# Altium footprint library sign_lib.PcbLib: 24 footprints (part 2 of 2)
Each footprint in its own frame and in the unit in brackets; x right, y up, seen from the top. Pads: shape width x height; smd on the part's side, far side on the other; paste and mask are expansions set on the pad; w line width, h text height; cw(c..) or ccw(c..) is an arc to the next point about the centre after c.
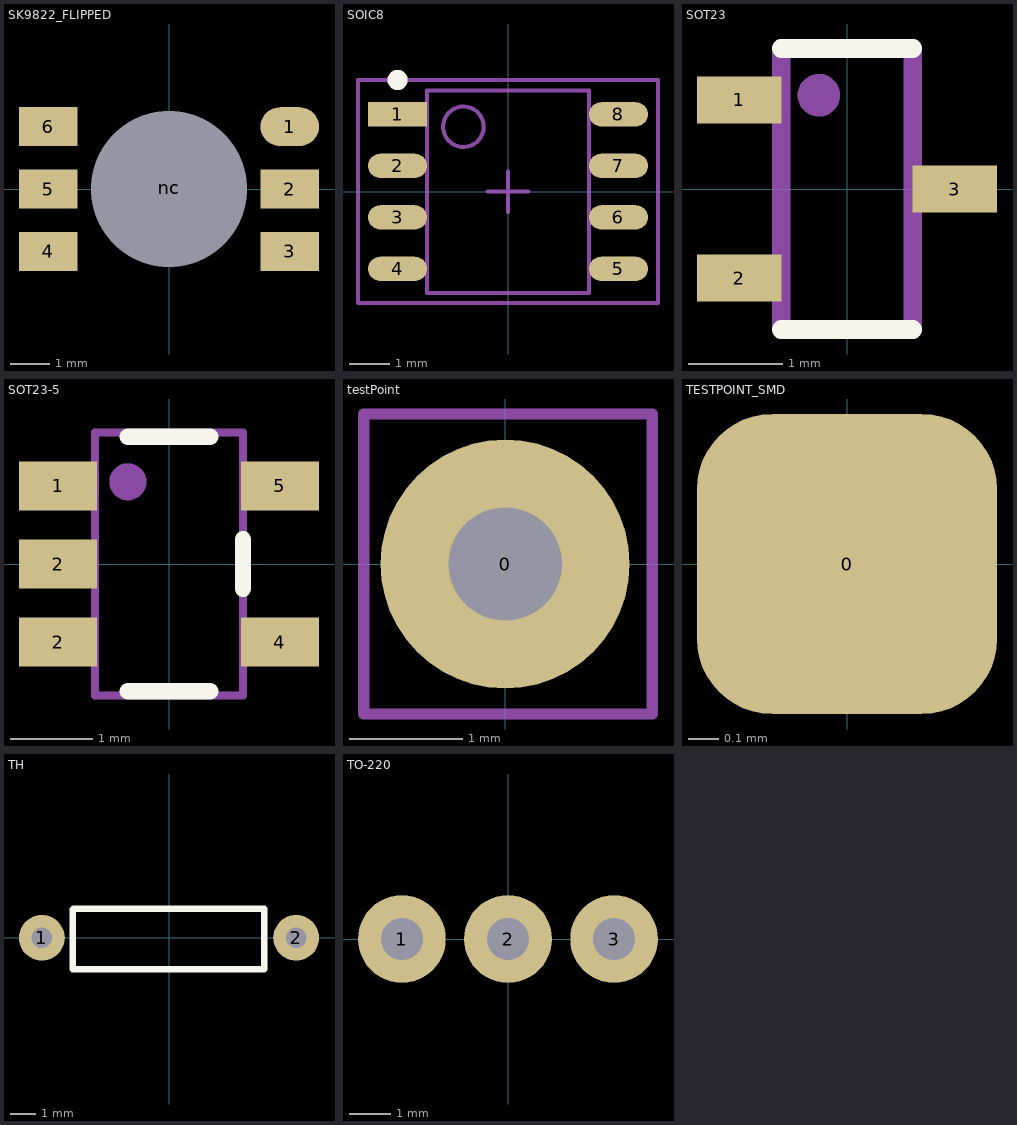
[diagram p1: the footprints below, top view; thin cyan lines are the x and y axes]

## SK9822_FLIPPED [mm]
pads (7):
  oval 1.5x1 smd: 1(3.1,1.6)
  rect 1.5x1 smd: 2(3.1,0) 3(3.1,-1.6) 4(-3.1,-1.6) 5(-3.1,0) 6(-3.1,1.6)
  round 1 hole 4: nc(0,0)
3D body "11821.STEP": height 1.9, standoff 0.15, extent -2.7,-2.5 2.7,2.5

## SOIC8 [mm] "SOIC, 8-Leads, Body 4,90x3,90mm, Pitch 1,27mm, IPC Medium Density"
height 1.75
pads (8):
  rect 1.45x0.6 smd: 1(-2.725,1.905)
  oval 1.45x0.6 smd: 2(-2.725,0.635) 3(-2.725,-0.635) 4(-2.725,-1.905) 5(2.725,-1.905) 6(2.725,-0.635) 7(2.725,0.635) 8(2.725,1.905)
Top Overlay:
  circle w0.25: c-2.725,2.755 r0.125
Mechanical 13:
  circle w0.1: c-1.1,1.6 r0.5
  lines w0.1: -2,-2.5 2,-2.5 2,2.5 -2,2.5 -2,-2.5
Mechanical 15:
  lines w0.1: -0.5,0 0.5,0 ; 0,-0.5 0,0.5 ; -3.7,-2.75 3.7,-2.75 3.7,2.75 -3.7,2.75 -3.7,-2.75
3D body "User Library-SOIC-8-1.STEP": height 1.75, standoff 0, extent -3.027,-2.43 2.973,2.47

## SOT23 [mm]
pads (3):
  rect 0.9x0.5 smd: 1(-1.15,0.95) 2(-1.15,-0.95) 3(1.15,0)
Top Overlay:
  lines w0.2: -0.7,-1.5 0.7,-1.5 ; -0.7,1.5 0.7,1.5
Top Assembly:
  circle w0.254: c-0.3,1 r0.1
  lines w0.2: -0.7,-1.5 -0.7,1.5 0.7,1.5 0.7,-1.5 -0.7,-1.5
  text ".Designator" at 0.383,-0.75 h0.8
3D body "CircuitWorks-SOT-23.STEP": height 1.11, standoff 0.01, extent -1.25,-1.5 1.25,1.5

## SOT23-5 [mm] "SOT23, 5-Leads, Body 2,90x2,80mm, Pitch 0,95mm, IPC Medium Density"
height 1.1
pads (5):
  rect 0.95x0.6 smd: 1(-1.35,0.95) 2(-1.35,-0.95) 2(-1.35,0) 4(1.35,-0.95) 5(1.35,0.95)
Top Overlay:
  lines w0.2: -0.5,-1.55 0.5,-1.55 ; -0.5,1.55 0.5,1.55 ; 0.9,-0.3 0.9,0.3
Top Assembly:
  circle w0.25: c-0.5,1 r0.1
  lines w0.1: -0.9,-1.6 -0.9,1.6 0.9,1.6 0.9,-1.6 -0.9,-1.6
  text ".Designator" at 0.5,-0.6 h1
3D body "SW3DPS-SOT-23-5-DEFAULT.STEP": height 1.1, standoff 0, extent -1.25,-1.5 1.25,1.5

## testPoint [mm] "Diameter 2mm, Hole 0.3mm"
pads (1):
  round 2.2 hole 1: 0(0,0)
Mechanical 13:
  lines w0.1: -1.25,-1.325 1.3,-1.325 1.3,1.325 -1.25,1.325 -1.25,-1.325
  text ".Designator" at -1.075,-0.525 h0.4
3D body "User Library-TEST POINT.STEP": height 4.36, standoff -2.57, extent -1.27,-1.315 1.27,1.318

## TESTPOINT_SMD [mm] "Diameter 2mm, Hole 0.3mm"
pads (1):
  rrect50% 1x1 smd: 0(0,0)

## TH [mm] "Spacing 9mm"
pads (2):
  round 1.8 hole 0.8: 1(-5,0) 2(5,0)
Top Overlay:
  lines w0.25: -3.788,-1.238 3.75,-1.238 3.75,1.145 -3.727,1.145 ccw(c-3.727,1.06) -3.788,1.12 -3.788,-1.238
3D body "User Library-Resistor2.STEP": height 2.17, standoff -2.05, extent -5.34,-1.16 5.353,1.177

## TO-220 [mm]
pads (3):
  round 2.1 hole 1: 1(-2.54,0) 2(0,0) 3(2.54,0)
3D body "User Library-TO-220-4.STEP": height 19.56, standoff -9.24, extent -5.1,-1.833 5.1,2.667